# Altium footprint library LM5107MAX_NOPB.PcbLib: 1 footprints
Each footprint in its own frame and in the unit in brackets; x right, y up, seen from the top. Pads: shape width x height; smd on the part's side, far side on the other; paste and mask are expansions set on the pad; w line width, h text height; cw(c..) or ccw(c..) is an arc to the next point about the centre after c.
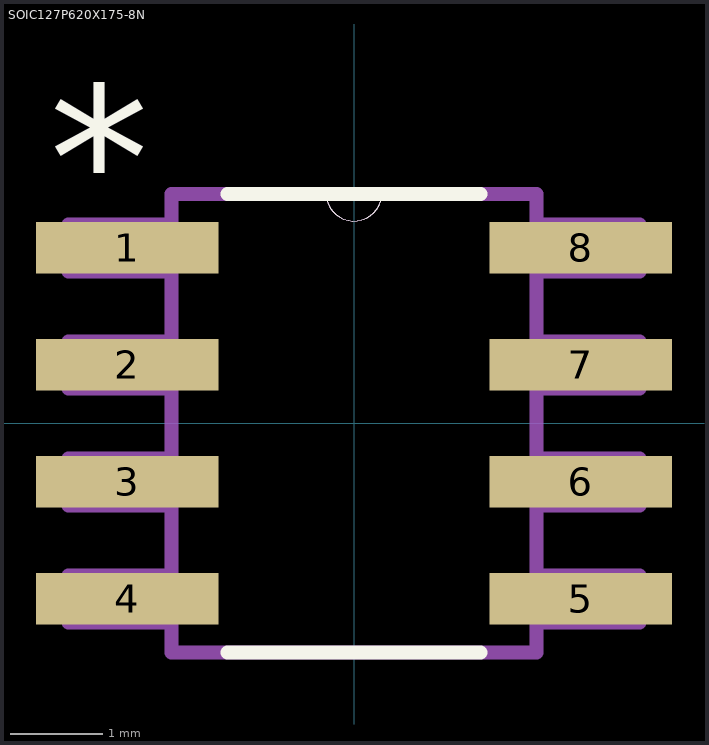
[diagram p0: the footprint, top view; thin cyan lines are the x and y axes]

## SOIC127P620X175-8N [mil]
pads (8):
  rect 78x22 smd: 1(-97,75) 2(-97,25) 3(-97,-25) 4(-97,-75) 5(97,-75) 6(97,-25) 7(97,25) 8(97,75)
Top Overlay:
  lines w0: -12,98.08 ccw(c0,98.5) 12,98.92
  lines w6: -54,-98 54,-98 ; -54,98 -12,98 54,98
  text "*" at -130.36,82.41 h73.82
Mechanical 1:
  lines w0: -12,98.08 ccw(c0,98.5) 12,98.92
  lines w6: -122,-85 -78,-85 -78,-65 -122,-65 -122,-85 ; -122,-35 -78,-35 -78,-15 -122,-15 -122,-35 ; -122,15 -78,15 -78,35 -122,35 -122,15 ; -122,65 -78,65 -78,85 -122,85 -122,65 ; -78,-98 -78,98 -12,98 78,98 78,-98 -78,-98 ; 78,-85 122,-85 122,-65 78,-65 78,-85 ; 78,-35 122,-35 122,-15 78,-15 78,-35 ; 78,15 122,15 122,35 78,35 78,15 ; 78,65 122,65 122,85 78,85 78,65
  text "*" at -130.08,82.21 h73.82